# Altium schematic symbol library ACE.SchLib: 19 symbols
Pins are listed as number, name and electrical type; pins without a type are passive.

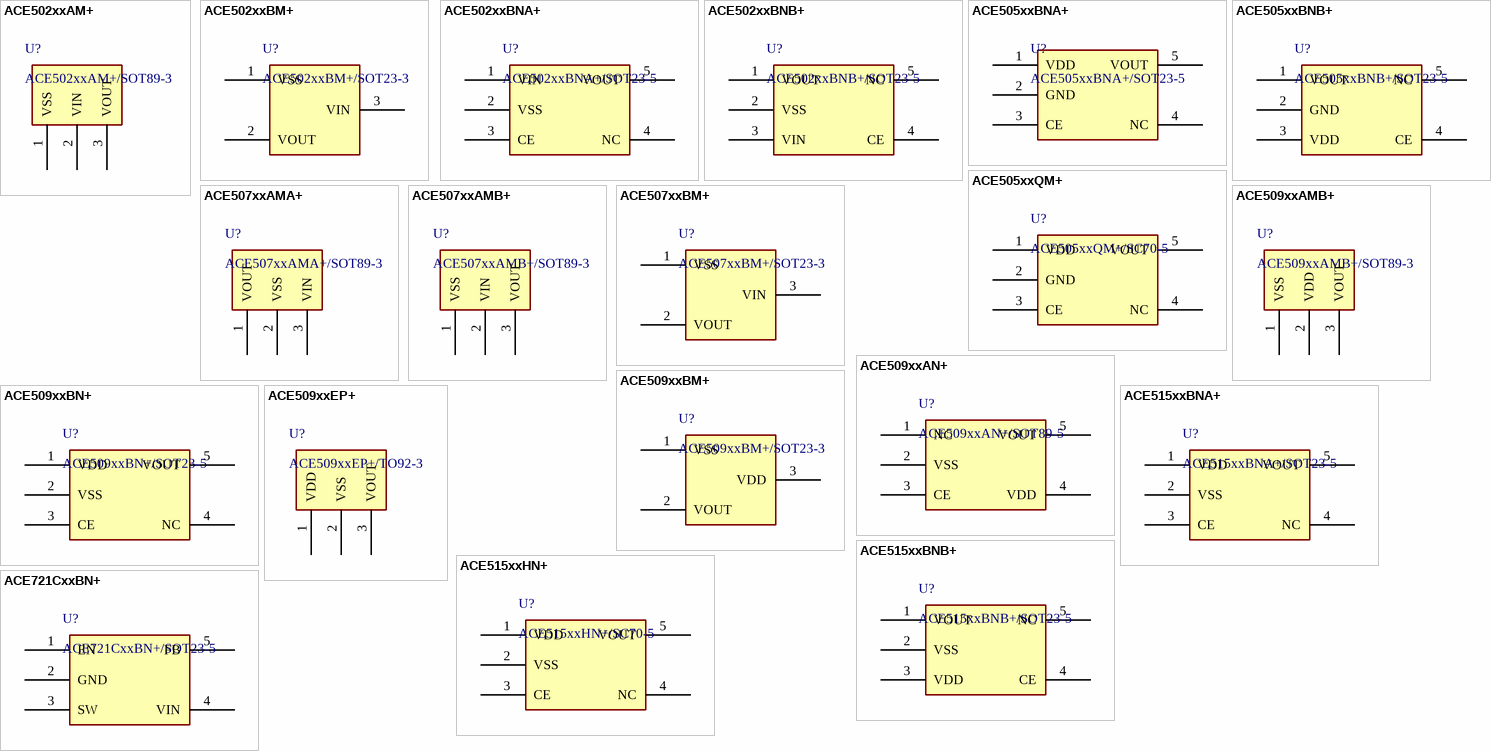
[diagram p0: symbols ACE502xxAM+ to ACE721CxxBN+]

## ACE502xxAM+
designator U?, comment ACE502xxAM+/SOT89-3
400mA CMOS Low Dropout Voltage Low consumption Regulator
footprint SOT89-3 (SOT89-3; SOT-89-3; 3 Leads; Body 4.6 x 5.8 mm, inc. leads (LxW max))
pins: 1 VSS (power), 2 VIN (power), 3 VOUT (power)

## ACE502xxBM+
designator U?, comment ACE502xxBM+/SOT23-3
400mA CMOS Low Dropout Voltage Low consumption Regulator
footprint SOT23-3 (SOT-23-3;SOT23-3;)
pins: 1 VSS (power), 2 VOUT (power), 3 VIN (power)

## ACE502xxBNA+
designator U?, comment ACE502xxBNA+/SOT23-5
400mA CMOS Low Dropout Voltage Low consumption Regulator
footprint SOT23-5 (SOT23-5; SOT-23-5; 5 Leads; Body 3.0 x 2.8 mm, inc. leads (LxW max))
pins: 1 VIN (power), 2 VSS (power), 3 CE, 4 NC, 5 VOUT (power)

## ACE502xxBNB+
designator U?, comment ACE502xxBNB+/SOT23-5
400mA CMOS Low Dropout Voltage Low consumption Regulator
footprint SOT23-5 (SOT23-5; SOT-23-5; 5 Leads; Body 3.0 x 2.8 mm, inc. leads (LxW max))
pins: 1 VOUT (power), 2 VSS (power), 3 VIN (power), 4 CE, 5 NC

## ACE505xxBNA+
designator U?, comment ACE505xxBNA+/SOT23-5
Low noise 150mA LDO regulator
footprint SOT23-5 (SOT23-5; SOT-23-5; 5 Leads; Body 3.0 x 2.8 mm, inc. leads (LxW max))
pins: 1 VDD (power), 2 GND (power), 3 CE, 4 NC, 5 VOUT (power)

## ACE505xxBNB+
designator U?, comment ACE505xxBNB+/SOT23-5
Low noise 150mA LDO regulator
footprint SOT23-5 (SOT23-5; SOT-23-5; 5 Leads; Body 3.0 x 2.8 mm, inc. leads (LxW max))
pins: 1 VOUT (power), 2 GND (power), 3 VDD (power), 4 CE, 5 NC

## ACE505xxQM+
designator U?, comment ACE505xxQM+/SC70-5
Low noise 150mA LDO regulator
footprint SC70-5
pins: 1 VDD (power), 2 GND (power), 3 CE, 4 NC, 5 VOUT (power)

## ACE507xxAMA+
designator U?, comment ACE507xxAMA+/SOT89-3
Precise Low Dropout Voltage Regulator;
footprint SOT89-3 (SOT89-3; SOT-89-3; 3 Leads; Body 4.6 x 5.8 mm, inc. leads (LxW max))
pins: 1 VOUT (power), 2 VSS (power), 3 VIN (power)

## ACE507xxAMB+
designator U?, comment ACE507xxAMB+/SOT89-3
Precise Low Dropout Voltage Regulator;
footprint SOT89-3 (SOT89-3; SOT-89-3; 3 Leads; Body 4.6 x 5.8 mm, inc. leads (LxW max))
pins: 1 VSS (power), 2 VIN (power), 3 VOUT (power)

## ACE507xxBM+
designator U?, comment ACE507xxBM+/SOT23-3
Precise Low Dropout Voltage Regulator;
footprint SOT23-3 (SOT-23-3;SOT23-3;)
pins: 1 VSS (power), 2 VOUT (power), 3 VIN (power)

## ACE509xxAMB+
designator U?, comment ACE509xxAMB+/SOT89-3
Low noise, fast response 500mA LDO regulator;
footprint SOT89-3 (SOT89-3; SOT-89-3; 3 Leads; Body 4.6 x 5.8 mm, inc. leads (LxW max))
pins: 1 VSS (power), 2 VDD (power), 3 VOUT (power)

## ACE509xxAN+
designator U?, comment ACE509xxAN+/SOT89-5
Low noise, fast response 500mA LDO regulator;
footprint SOT89-5 (Footprint not found)
pins: 1 NC, 2 VSS (power), 3 CE, 4 VDD (power), 5 VOUT (power)

## ACE509xxBM+
designator U?, comment ACE509xxBM+/SOT23-3
Low noise, fast response 500mA LDO regulator;
footprint SOT23-3 (SOT-23-3;SOT23-3;)
pins: 1 VSS (power), 2 VOUT (power), 3 VDD (power)

## ACE509xxBN+
designator U?, comment ACE509xxBN+/SOT23-5
Low noise, fast response 500mA LDO regulator;
footprint SOT23-5 (SOT23-5; SOT-23-5; 5 Leads; Body 3.0 x 2.8 mm, inc. leads (LxW max))
pins: 1 VDD (power), 2 VSS (power), 3 CE, 4 NC, 5 VOUT (power)

## ACE509xxEP+
designator U?, comment ACE509xxEP+/TO92-3
Low noise, fast response 500mA LDO regulator;
footprint TO92-3 (Footprint not found)
pins: 1 VDD (power), 2 VSS (power), 3 VOUT (power)

## ACE515xxBNA+
designator U?, comment ACE515xxBNA+/SOT23-5
Low Noise, fast response 300mA LDO regulator
footprint SOT23-5 (SOT23-5; SOT-23-5; 5 Leads; Body 3.0 x 2.8 mm, inc. leads (LxW max))
pins: 1 VDD (power), 2 VSS (power), 3 CE, 4 NC, 5 VOUT (power)

## ACE515xxBNB+
designator U?, comment ACE515xxBNB+/SOT23-5
Low Noise, fast response 300mA LDO regulator
footprint SOT23-5 (SOT23-5; SOT-23-5; 5 Leads; Body 3.0 x 2.8 mm, inc. leads (LxW max))
pins: 1 VOUT (power), 2 VSS (power), 3 VDD, 4 CE, 5 NC (power)

## ACE515xxHN+
designator U?, comment ACE515xxHN+/SC70-5
Low Noise, fast response 300mA LDO regulator
footprint SC70-5
pins: 1 VDD (power), 2 VSS (power), 3 CE, 4 NC, 5 VOUT (power)

## ACE721CxxBN+
designator U?, comment ACE721CxxBN+/SOT23-5
1A 1.5MHz 5.5V Synchronous Buck Converter;
footprint SOT23-5 (SOT23-5; SOT-23-5; 5 Leads; Body 3.0 x 2.8 mm, inc. leads (LxW max))
pins: 1 EN, 2 GND (power), 3 SW (power), 4 VIN (power), 5 FB